# EAGLE library part 2171790001 (library redashboard_rp2040)
Check availability <https://pricing.snapeda.com/parts/2171790001/Molex/view-part?ref=eda>
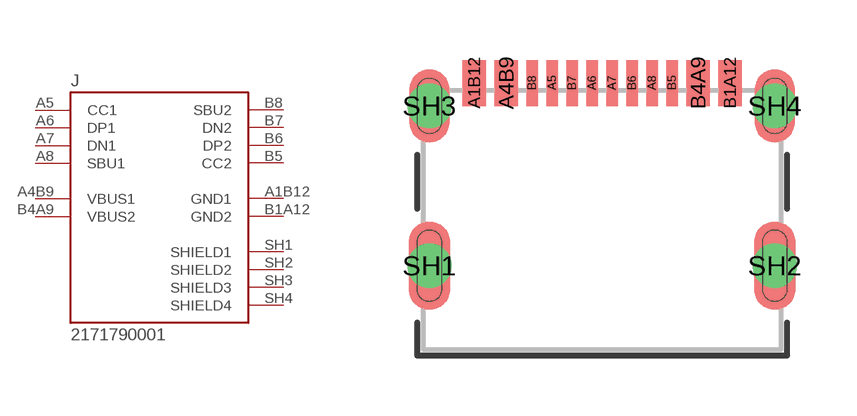
[diagram p0: symbol with the pads of MOLEX_2171790001; footprint MOLEX_2171790001]

Designator prefix J

## 2171790001 (AVAILABILITY: In Stock; CHECK_PRICES: https://www.snapeda.com/parts/2171790001/Molex/view-part/?ref=eda; DESCRIPTION: Universal Serial Bus (USB) Shielded I/O Receptacle, Type C, Right-Angle, Surface Mount, Top Mount, Single Row, 16 Circuits, Gold (Au) Plating; MF: Molex; MP: 2171790001; PACKAGE: None; PRICE: None; SNAPEDA_LINK: https://www.snapeda.com/parts/2171790001/Molex/view-part/?ref=snap)  [MOLEX_2171790001]
A1B12  GND1  pwr
A4B9  VBUS1  pwr
A5  CC1
A6  DP1
A7  DN1
A8  SBU1
B1A12  GND2  pwr
B4A9  VBUS2  pwr
B5  CC2
B6  DP2
B7  DN2
B8  SBU2
SH1  SHIELD1  pas
SH2  SHIELD2  pas
SH3  SHIELD3  pas
SH4  SHIELD4  pas

## Footprint MOLEX_2171790001 (pad centres in mm)
smd 0.59 x 1.15: A1B12 -3.2,3.425; A4B9 -2.4,3.425; B1A12 3.2,3.425; B4A9 2.4,3.425
smd 0.298 x 1.15: A5 -1.25,3.425; A6 -0.25,3.425; A7 0.25,3.425; A8 1.25,3.425; B5 1.75,3.425; B6 0.75,3.425; B7 -0.75,3.425; B8 -1.75,3.425
drill 0.6 pad 1: SH1 -4.32,-1.15; SH2 4.32,-1.15; SH3 -4.32,2.85; SH4 4.32,2.85